# EAGLE library part 7850-0006PR (library 3M_By_element14_Batch_1)
Header
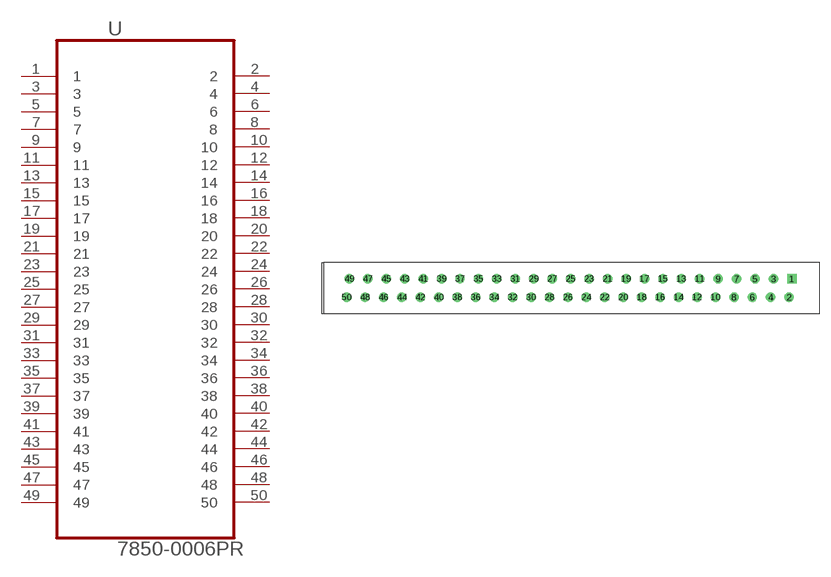
[diagram p67: symbol with the pads of 3M_7850-0006PR; footprint 3M_7850-0006PR]

Designator prefix U

## 7850-0006PR (MPN: 7850-0006PR; OC_FARNELL: -; OC_NEWARK: 18M8281; PACKAGE: Header-50Pin; SUPPLIER: 3M)  [3M_7850-0006PR]
1  1  pas
2  2  pas
3  3  pas
4  4  pas
5  5  pas
6  6  pas
7  7  pas
8  8  pas
9  9  pas
10  10  pas
11  11  pas
12  12  pas
13  13  pas
14  14  pas
15  15  pas
16  16  pas
17  17  pas
18  18  pas
19  19  pas
20  20  pas
21  21  pas
22  22  pas
23  23  pas
24  24  pas
25  25  pas
26  26  pas
27  27  pas
28  28  pas
29  29  pas
30  30  pas
31  31  pas
32  32  pas
33  33  pas
34  34  pas
35  35  pas
36  36  pas
37  37  pas
38  38  pas
39  39  pas
40  40  pas
41  41  pas
42  42  pas
43  43  pas
44  44  pas
45  45  pas
46  46  pas
47  47  pas
48  48  pas
49  49  pas
50  50  pas

## Footprint 3M_7850-0006PR (pad centres in mm)
drill 0.787 square: 1 0,2.54
drill 0.787: 2 -0.381,0; 3 -2.54,2.54; 4 -2.921,0; 5 -5.08,2.54; 6 -5.461,0; 7 -7.62,2.54; 8 -8.001,0; 9 -10.16,2.54; 10 -10.541,0; 11 -12.7,2.54; 12 -13.081,0; 13 -15.24,2.54; 14 -15.621,0; 15 -17.78,2.54; 16 -18.161,0; 17 -20.32,2.54; 18 -20.701,0; 19 -22.86,2.54; 20 -23.241,0; 21 -25.4,2.54; 22 -25.781,0; 23 -27.94,2.54; 24 -28.321,0; 25 -30.48,2.54; 26 -30.861,0; 27 -33.02,2.54; 28 -33.401,0; 29 -35.56,2.54; 30 -35.941,0; 31 -38.1,2.54; 32 -38.481,0; 33 -40.64,2.54; 34 -41.021,0; 35 -43.18,2.54; 36 -43.561,0; 37 -45.72,2.54; 38 -46.101,0; 39 -48.26,2.54; 40 -48.641,0; 41 -50.8,2.54; 42 -51.181,0; 43 -53.34,2.54; 44 -53.721,0; 45 -55.88,2.54; 46 -56.261,0; 47 -58.42,2.54; 48 -58.801,0; 49 -60.96,2.54; 50 -61.341,0